# Altium integrated library TSM80N1R2CL_C0G.IntLib: 1 symbol
Pins are listed as number, name and electrical type; pins without a type are passive.

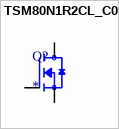
[diagram p0: symbol TSM80N1R2CL_C0G]

## TSM80N1R2CL_C0G
designator Q?
800V, 5.5A, Single N-Channel Power MOSFET; MP: TSM80N1R2CL C0G; MF: Taiwan Semiconductor; Price: None; Purchase-URL: https://pricing.snapeda.com/search/part/TSM80N1R2CL C0G/?ref=eda; Package: None; Value: *; Availability: In Stock; Check_prices: https://www.snapeda.com/parts/TSM80N1R2CL%20C0G/Taiwan+Semiconductor/view-part/?ref=eda; SnapEDA_Link: https://www.snapeda.com/parts/TSM80N1R2CL%20C0G/Taiwan+Semiconductor/view-part/?ref=snap
footprint TO254P1050X455X1507-3
pins: 1 G, 2 D, 3 S